# Altium footprint library 2225_C.PcbLib: 1 footprints
Each footprint in its own frame and in the unit in brackets; x right, y up, seen from the top. Pads: shape width x height; smd on the part's side, far side on the other; paste and mask are expansions set on the pad; w line width, h text height; cw(c..) or ccw(c..) is an arc to the next point about the centre after c.
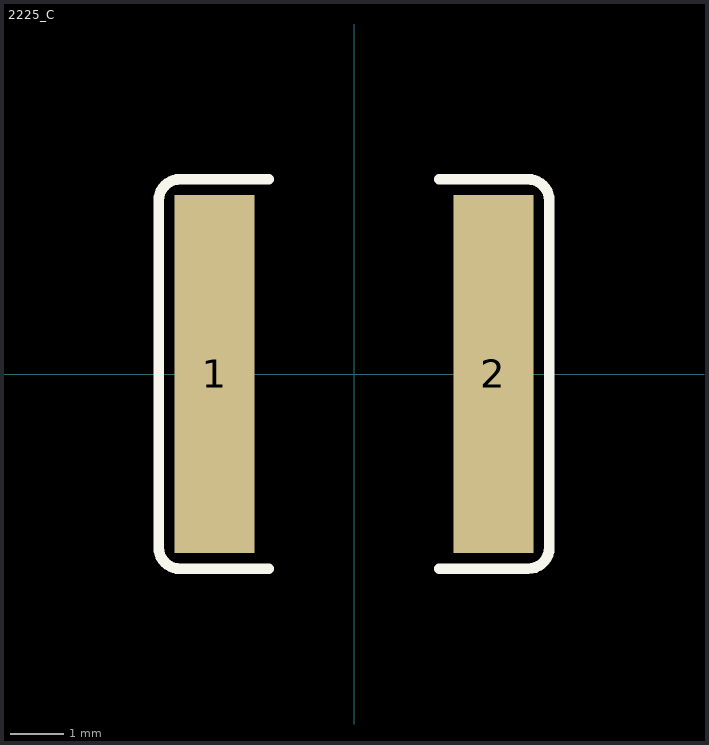
[diagram p0: the footprint, top view; thin cyan lines are the x and y axes]

## 2225_C [mm]
pads (2):
  rect 1.5x6.72 smd: 1(-2.62,0) 2(2.62,0)
Top Overlay:
  lines w0.2: -1.6,-3.66 -3.27,-3.66 cw(c-3.27,-3.26) -3.67,-3.26 -3.67,3.26 cw(c-3.27,3.26) -3.27,3.66 -1.6,3.66 ; 1.6,-3.66 3.27,-3.66 ccw(c3.27,-3.26) 3.67,-3.26 3.67,3.26 ccw(c3.27,3.26) 3.27,3.66 1.6,3.66
3D body: height 1.3, standoff 0, extent -2.85,-3.175 2.85,3.175